# Altium footprint library TZA11A.PcbLib: 1 footprints
Each footprint in its own frame and in the unit in brackets; x right, y up, seen from the top. Pads: shape width x height; smd on the part's side, far side on the other; paste and mask are expansions set on the pad; w line width, h text height; cw(c..) or ccw(c..) is an arc to the next point about the centre after c.
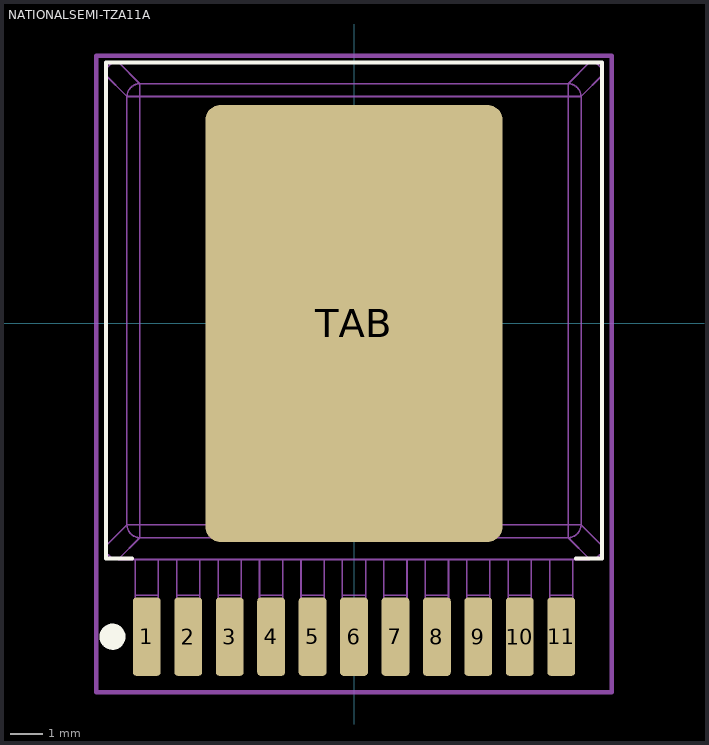
[diagram p0: the footprint, top view; thin cyan lines are the x and y axes]

## NATIONALSEMI-TZA11A [mm] "National Semi TZA11A package"
height 6
pads (12):
  rrect25% 0.85x2.4 smd: 1(-6.35,-9.6) 2(-5.08,-9.6) 3(-3.81,-9.6) 4(-2.54,-9.6) 5(-1.27,-9.6) 6(0,-9.6) 7(1.27,-9.6) 8(2.54,-9.6) 9(3.81,-9.6) 10(5.08,-9.6) 11(6.35,-9.6)
  rrect10% 9.1x13.4 smd: TAB(0,0)
Top Overlay:
  circle w0.4: c-7.4,-9.6 r0.2
  lines w0.127: -6.8,-7.2 -7.6,-7.2 -7.6,8 7.6,8 7.6,-7.2 6.8,-7.2
Mechanical 13:
  lines w0.05: -6.705,-9.644 -5.995,-9.644 ; -6.705,-9.29 -5.995,-9.29 ; -6.705,-8.865 -5.995,-8.865 ; -6.705,-8.325 -5.995,-8.325 ; -6.705,-7.235 -6.705,-10.515 -5.995,-10.515 -5.995,-7.235 ; -5.435,-9.644 -4.725,-9.644 ; -5.435,-9.29 -4.725,-9.29 ; -5.435,-8.865 -4.725,-8.865 ; -5.435,-8.325 -4.725,-8.325 ; -5.435,-7.235 -5.435,-10.515 -4.725,-10.515 -4.725,-7.235 ; -4.165,-9.644 -3.455,-9.644 ; -4.165,-9.29 -3.455,-9.29 ; -4.165,-8.865 -3.455,-8.865 ; -4.165,-8.325 -3.455,-8.325 ; -4.165,-7.235 -4.165,-10.515 -3.455,-10.515 -3.455,-7.235 ; -2.895,-9.644 -2.185,-9.644 ; -2.895,-9.29 -2.185,-9.29 ; -2.895,-8.865 -2.185,-8.865 ; -2.895,-8.325 -2.185,-8.325 ; -2.895,-7.235 -2.895,-10.515 -2.185,-10.515 -2.185,-7.235 ; -1.625,-9.644 -0.915,-9.644 ; -1.625,-9.29 -0.915,-9.29 ; -1.625,-8.865 -0.915,-8.865 ; -1.625,-8.325 -0.915,-8.325 ; -1.625,-7.235 -1.625,-10.515 -0.915,-10.515 -0.915,-7.235 ; -0.355,-9.644 0.355,-9.644 ; -0.355,-9.29 0.355,-9.29 ; -0.355,-8.865 0.355,-8.865 ; -0.355,-8.325 0.355,-8.325 ; -0.355,-7.235 -0.355,-10.515 0.355,-10.515 0.355,-7.235 ; 0.915,-9.644 1.625,-9.644 ; 0.915,-9.29 1.625,-9.29 ; 0.915,-8.865 1.625,-8.865 ; 0.915,-8.325 1.625,-8.325 ; 0.915,-7.235 0.915,-10.515 1.625,-10.515 1.625,-7.235 ; 2.185,-9.644 2.895,-9.644 ; 2.185,-9.29 2.895,-9.29 ; 2.185,-8.865 2.895,-8.865 ; 2.185,-8.325 2.895,-8.325 ; 2.185,-7.235 2.185,-10.515 2.895,-10.515 2.895,-7.235 ; 3.455,-9.644 4.165,-9.644 ; 3.455,-9.29 4.165,-9.29 ; 3.455,-8.865 4.165,-8.865 ; 3.455,-8.325 4.165,-8.325 ; 3.455,-7.235 3.455,-10.515 4.165,-10.515 4.165,-7.235 ; 4.725,-9.644 5.435,-9.644 ; 4.725,-9.29 5.435,-9.29 ; 4.725,-8.865 5.435,-8.865 ; 4.725,-8.325 5.435,-8.325 ; 4.725,-7.235 4.725,-10.515 5.435,-10.515 5.435,-7.235 ; 5.995,-9.644 6.705,-9.644 ; 5.995,-9.29 6.705,-9.29 ; 5.995,-8.865 6.705,-8.865 ; 5.995,-8.325 6.705,-8.325 ; 5.995,-7.235 5.995,-10.515 6.705,-10.515 6.705,-7.235 ; -7.625,-6.839 ccw(c-7.225,-6.835) -7.229,-7.235 ; -7.625,-6.839 -6.958,-6.172 ; -7.625,-6.839 -7.625,-6.835 -7.625,7.615 -7.625,7.619 ; -7.625,7.619 cw(c-7.225,7.615) -7.229,8.015 ; -7.625,7.619 -6.958,6.952 ; -7.229,-7.235 -6.562,-6.568 ; -7.229,-7.235 -7.225,-7.235 7.225,-7.235 7.229,-7.235 ; -7.229,8.015 -6.562,7.348 ; -7.229,8.015 -7.225,8.015 7.225,8.015 7.229,8.015 ; -6.958,-6.172 ccw(c-6.553,-6.163) -6.562,-6.568 ; -6.958,-6.172 6.958,-6.172 ; -6.958,-6.172 -6.958,6.952 ; -6.958,6.952 cw(c-6.553,6.943) -6.562,7.348 ; -6.958,6.952 6.958,6.952 ; -6.562,-6.568 6.562,-6.568 ; -6.562,-6.568 -6.562,7.348 ; -6.562,7.348 6.562,7.348 ; 6.562,-6.568 ccw(c6.553,-6.163) 6.958,-6.172 ; 6.562,-6.568 6.562,7.348 ; 6.562,-6.568 7.229,-7.235 ; 6.562,7.348 cw(c6.553,6.943) 6.958,6.952 ; 6.562,7.348 7.229,8.015 ; 6.958,-6.172 6.958,6.952 ; 6.958,-6.172 7.625,-6.839 ; 6.958,6.952 7.625,7.619 ; 7.229,-7.235 ccw(c7.225,-6.835) 7.625,-6.839 ; 7.229,8.015 cw(c7.225,7.615) 7.625,7.619 ; 7.625,-6.839 7.625,-6.835 7.625,7.615 7.625,7.619
Mechanical 15:
  lines w0.127: -7.9,-11.3 7.9,-11.3 7.9,8.2 -7.9,8.2 -7.9,-11.3
3D body: height 6, standoff 0, extent -7.625,-10.515 7.625,8.015